# EAGLE library part 3386 (library dpx-Potentiometers)
3386 Series 3/8" Square Trimmer (Multi-Package F,P,K & Y)
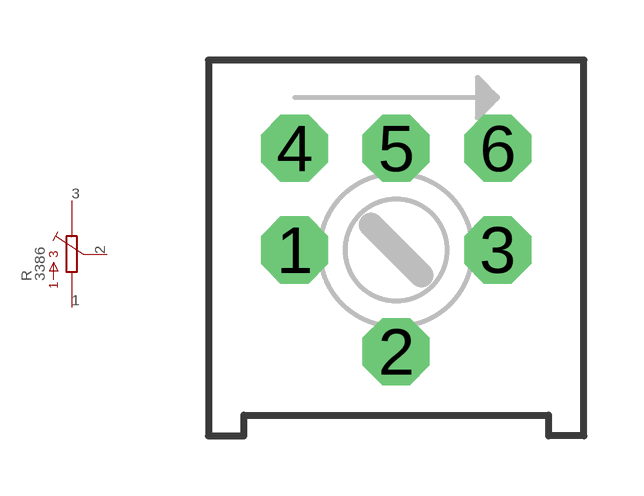
[diagram p0: symbol with the pads of 3386-MULTI; footprint 3386-MULTI]

Designator prefix R

## 3386  [3386-MULTI]
1  1  pas
2  2  pas
3  3  pas
4  4  pas
5  5  pas
6  6  pas

## Footprint 3386-MULTI (pad centres in mm)
3/8" Square Trimmer (Multi-Package)
drill 0.813 pad 1.676 octagon: 1 -2.54,0; 2 0,-2.54; 3 2.54,0; 4 -2.54,2.54; 5 0,2.54; 6 2.54,2.54